# Altium integrated library CDCE925PW.IntLib: 2 symbols
Pins are listed as number, name and electrical type; pins without a type are passive.

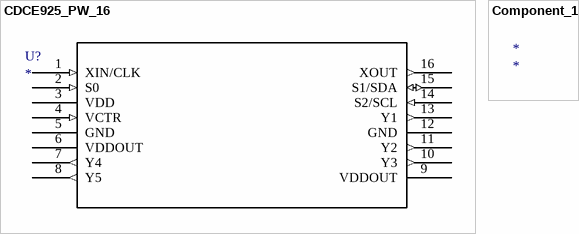
[diagram p0: symbols CDCE925_PW_16 to Component_1]

## CDCE925_PW_16
designator U?
Imported; Manufacturer: Texas Instruments; GENERIC_PART_NUMBER: CDCE925; INDUSTRY_STD_PKG_TYPE: TSSOP; FAMILY_NAME: VCXO INPUT; PIN_COUNT: 16; PACKAGE_DESIGNATOR: PW; Datasheet URL: http://www.ti.com/lit/gpn/CDCE925; RefDes: RefDes; Type: DEV; Value: Value
footprint PW16
pins: 1 XIN/CLK (in), 2 S0 (in), 3 VDD (power), 4 VCTR (in), 5 GND (power), 6 VDDOUT (power), 7 Y4 (out), 8 Y5 (out), 9 VDDOUT (power), 10 Y3 (out), 11 Y2 (out), 12 GND (power), 13 Y1 (out), 14 S2/SCL (in), 15 S1/SDA (io), 16 XOUT (out)

## Component_1
designator *